# Altium footprint library Connector.PcbLib: 97 footprints (part 4 of 7)
Each footprint in its own frame and in the unit in brackets; x right, y up, seen from the top. Pads: shape width x height; smd on the part's side, far side on the other; paste and mask are expansions set on the pad; w line width, h text height; cw(c..) or ccw(c..) is an arc to the next point about the centre after c.
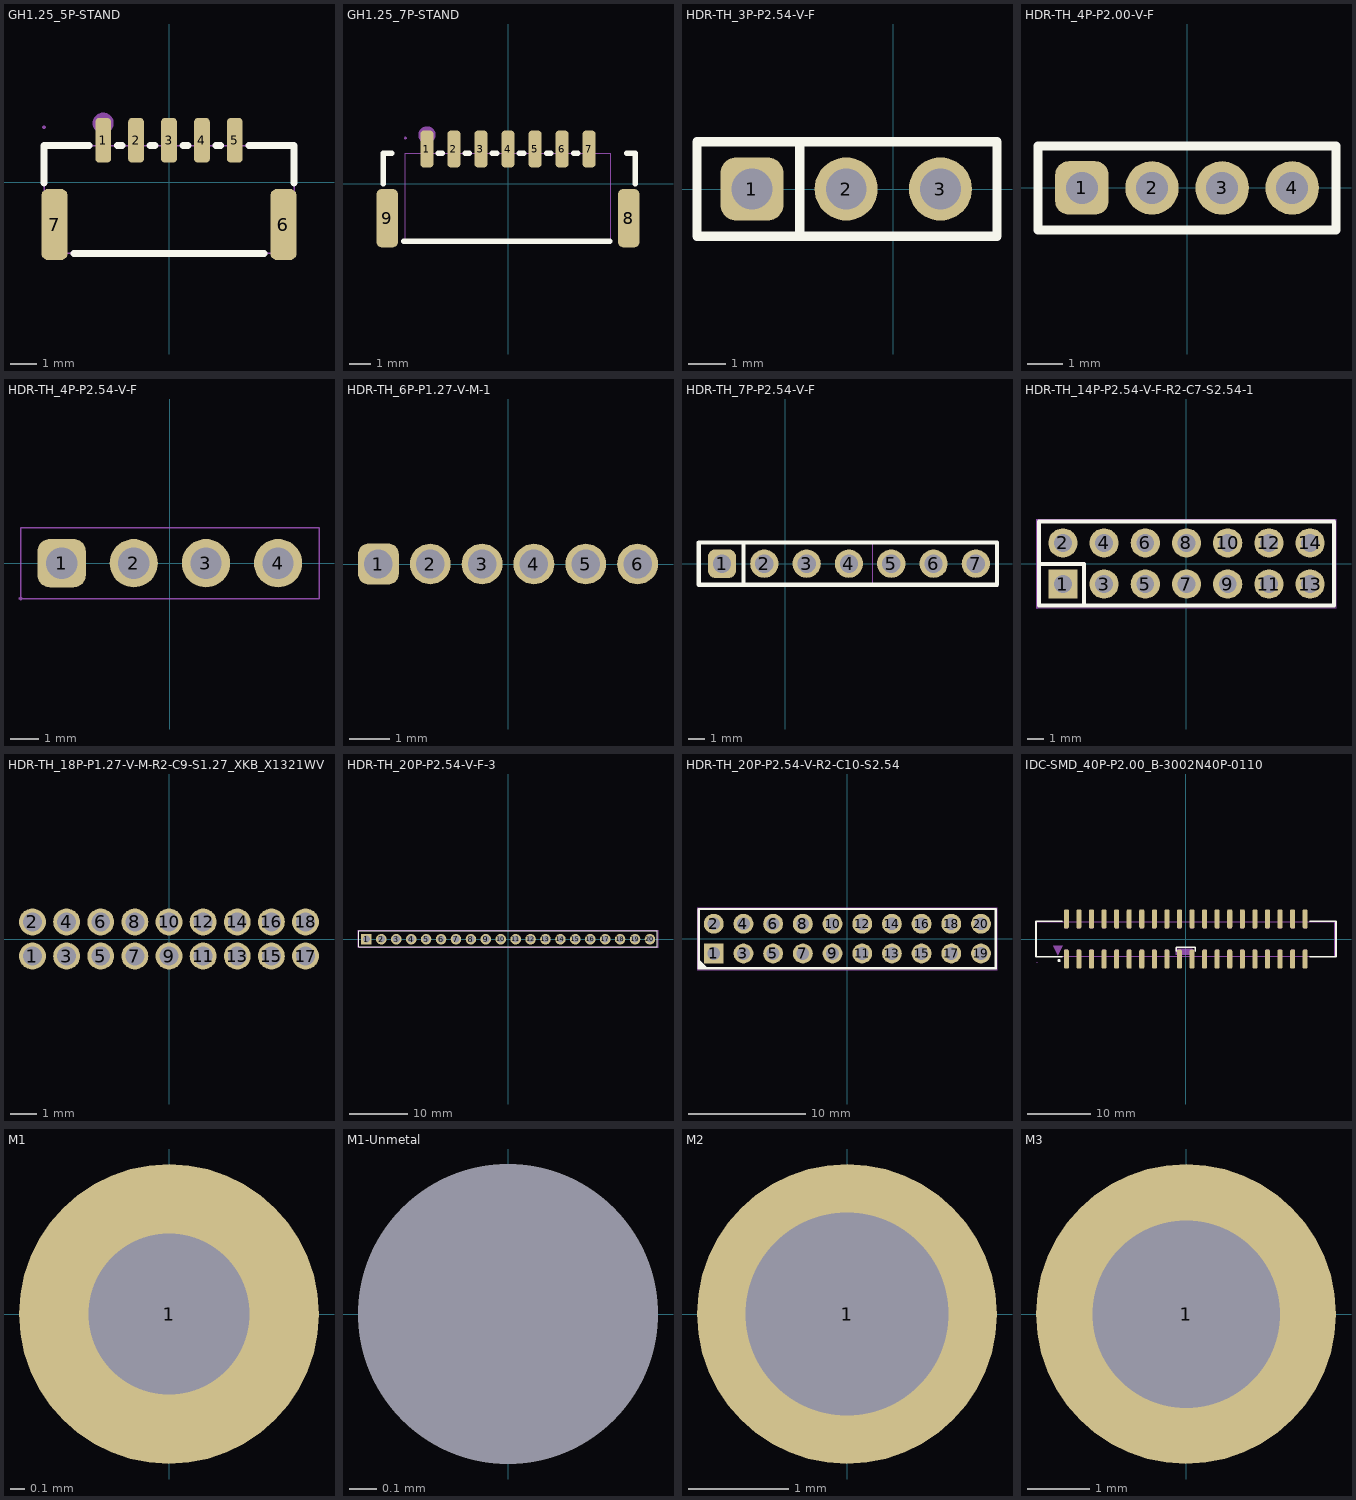
[diagram p3: the footprints below, top view; thin cyan lines are the x and y axes]

## GH1.25_5P-STAND [mm]
pads (7):
  rrect50% 0.6x1.7 smd mask+0.05: 1(-2.5,1.6) 2(-1.25,1.6) 3(0,1.6) 4(1.25,1.6) 5(2.5,1.6)
  rrect50% 1x2.7 smd mask+0.05: 6(4.35,-1.6) 7(-4.35,-1.6)
Top Overlay:
  lines w0.254: -4.75,-0.019 -4.75,1.4 -3.031,1.4 ; -3.619,-2.7 3.619,-2.7 ; -1.969,1.4 -1.781,1.4 ; -0.719,1.4 -0.531,1.4 ; 0.531,1.4 0.719,1.4 ; 1.781,1.4 1.969,1.4 ; 3.031,1.4 4.75,1.4 4.75,-0.019
Mechanical 6:
  circle w0.4: c-2.5,2.25 r0.2
Mechanical 15:
  region: -4.69,2.1 -4.69,2.125 -4.725,2.16 -4.775,2.16 -4.81,2.125 -4.81,2.1 -4.81,2.075 -4.775,2.04 -4.725,2.04 -4.69,2.075 -4.69,2.1
  region: -2.6,2.1 -2.4,2.1 -2.4,1.1 -2.6,1.1
  region: -1.35,2.1 -1.15,2.1 -1.15,1.1 -1.35,1.1
  region: -0.1,2.1 0.1,2.1 0.1,1.1 -0.1,1.1
  region: 1.15,2.1 1.35,2.1 1.35,1.1 1.15,1.1
  region: 2.4,2.1 2.6,2.1 2.6,1.1 2.4,1.1
  region: 4.25,-0.9 4.45,-0.9 4.45,-2.6 4.25,-2.6
  region: -4.45,-0.9 -4.25,-0.9 -4.25,-2.6 -4.45,-2.6
  lines w0.051: -4.75,-2.7 4.75,-2.7 4.75,1.4 -4.75,1.4 -4.75,-2.7
3D body "B05MB-GHS-TBT.STEP": height 4.06, standoff -0.04, extent -4.75,-2.8 4.75,2.1

## GH1.25_7P-STAND [mm]
pads (9):
  rrect50% 0.6x1.7 smd mask+0.05: 1(-3.75,1.6) 2(-2.5,1.6) 3(-1.25,1.6) 4(0,1.6) 5(1.25,1.6) 6(2.5,1.6) 7(3.75,1.6)
  rrect50% 1x2.7 smd mask+0.05: 8(5.588,-1.6) 9(-5.588,-1.6)
Top Overlay:
  lines w0.254: -5.766,-0.019 -5.766,1.4 -5.366,1.4 ; -4.826,-2.667 4.699,-2.667 ; -3.219,1.4 -3.031,1.4 ; -1.969,1.4 -1.781,1.4 ; -0.719,1.4 -0.531,1.4 ; 0.531,1.4 0.719,1.4 ; 1.781,1.4 1.969,1.4 ; 3.031,1.4 3.219,1.4 ; 5.493,1.4 5.893,1.4 5.893,-0.019
Mechanical 6:
  circle w0.4: c-3.75,2.25 r0.2
Mechanical 15:
  region: -5.661,-0.928 -5.461,-0.928 -5.461,-2.628 -5.661,-2.628
  region: 5.461,-0.928 5.661,-0.928 5.661,-2.628 5.461,-2.628
  region: 2.4,2.1 2.6,2.1 2.6,1.1 2.4,1.1
  region: 1.15,2.1 1.35,2.1 1.35,1.1 1.15,1.1
  region: -0.1,2.1 0.1,2.1 0.1,1.1 -0.1,1.1
  region: -1.35,2.1 -1.15,2.1 -1.15,1.1 -1.35,1.1
  region: -2.6,2.1 -2.4,2.1 -2.4,1.1 -2.6,1.1
  region: -4.69,2.1 -4.69,2.125 -4.725,2.16 -4.775,2.16 -4.81,2.125 -4.81,2.1 -4.81,2.075 -4.775,2.04 -4.725,2.04 -4.69,2.075 -4.69,2.1
  region: -3.85,2.1 -3.65,2.1 -3.65,1.1 -3.85,1.1
  region: 3.65,2.1 3.85,2.1 3.85,1.1 3.65,1.1
  lines w0.051: -4.75,-2.7 -4.75,1.4 4.75,1.4 4.75,-2.7 -4.75,-2.7
3D body "B07MB-GHS-TBT.STEP": height 4.13, standoff 0.03, extent -5.95,-2.98 6.05,1.92

## HDR-TH_3P-P2.54-V-F [mm] "间距2.54"
pads (3):
  rrect50% 1.699x1.699 hole 1.1 mask+0.051: 1(-3.81,0)
  round 1.699 hole 1.1 mask+0.051: 2(-1.27,0) 3(1.27,0)
Top Overlay:
  lines w0.254: -2.517,-1.27 -2.517,1.27 ; -5.291,-1.27 -5.291,1.27 2.794,1.27 2.794,-1.27 -5.291,-1.27
Mechanical 15:
  region: -4.13,0.15 -3.49,0.15 -3.49,-0.15 -4.13,-0.15
  region: -1.59,0.15 -0.95,0.15 -0.95,-0.15 -1.59,-0.15
  region: 0.95,0.15 1.59,0.15 1.59,-0.15 0.95,-0.15

## HDR-TH_4P-P2.00-V-F [mil] "间距2.0"
pads (4):
  rrect50% 60x60 hole 36 mask+2: 1(-118.11,0)
  round 60 hole 36 mask+2: 2(-39.37,0) 3(39.37,0) 4(118.11,0)
Top Overlay:
  lines w10: -167.32,-47.24 167.32,-47.24 167.32,47.24 -167.32,47.24 -167.32,-47.24
Mechanical 15:
  region: -164.96,-47.24 -164.96,-46.27 -166.34,-44.88 -168.3,-44.88 -169.69,-46.27 -169.69,-47.24 -169.69,-48.22 -168.3,-49.61 -166.34,-49.61 -164.96,-48.22 -164.96,-47.24
  region: 108.27,3.94 127.95,3.94 127.95,-3.94 108.27,-3.94
  region: 29.53,3.94 49.21,3.94 49.21,-3.94 29.53,-3.94
  region: -49.21,3.94 -29.53,3.94 -29.53,-3.94 -49.21,-3.94
  region: -127.95,3.94 -108.27,3.94 -108.27,-3.94 -127.95,-3.94
  lines w2: -167.32,-47.24 -167.32,47.24 167.32,47.24 167.32,-47.24 -167.32,-47.24

## HDR-TH_4P-P2.54-V-F [mm] "间距2.54"
pads (4):
  rrect50% 1.699x1.699 hole 1.1 mask+0.051: 1(-3.81,0)
  round 1.699 hole 1.1 mask+0.051: 2(-1.27,0) 3(1.27,0) 4(3.81,0)
Mechanical 15:
  region: -4.13,0.15 -3.49,0.15 -3.49,-0.15 -4.13,-0.15
  region: -1.59,0.15 -0.95,0.15 -0.95,-0.15 -1.59,-0.15
  region: 0.95,0.15 1.59,0.15 1.59,-0.15 0.95,-0.15
  region: 3.49,0.15 4.13,0.15 4.13,-0.15 3.49,-0.15
  region: -5.189,-1.25 -5.189,-1.224 -5.225,-1.189 -5.275,-1.189 -5.311,-1.224 -5.311,-1.25 -5.311,-1.275 -5.275,-1.311 -5.225,-1.311 -5.189,-1.275 -5.189,-1.25
  lines w0.051: -5.25,-1.25 -5.25,1.25 5.25,1.25 5.25,-1.25 -5.25,-1.25

## HDR-TH_6P-P1.27-V-M-1 [mm]
pads (6):
  rrect50% 1x1 hole 0.7: 1(-3.175,0)
  round 1 hole 0.7: 2(-1.905,0) 3(-0.635,0) 4(0.635,0) 5(1.905,0) 6(3.175,0)

## HDR-TH_7P-P2.54-V-F [mm] "间距2.54"
pads (7):
  rrect50% 1.699x1.699 hole 1.1 mask+0.051: 1(-3.81,0)
  round 1.699 hole 1.1 mask+0.051: 2(-1.27,0) 3(1.27,0) 4(3.81,0) 5(6.35,0) 6(8.89,0) 7(11.43,0)
Top Overlay:
  lines w0.254: -2.517,-1.27 -2.517,1.27 ; -5.207,-1.27 12.7,-1.27 12.7,1.27 -5.207,1.27 -5.207,-1.27
Mechanical 15:
  region: -4.13,0.15 -3.49,0.15 -3.49,-0.15 -4.13,-0.15
  region: -1.59,0.15 -0.95,0.15 -0.95,-0.15 -1.59,-0.15
  region: 0.95,0.15 1.59,0.15 1.59,-0.15 0.95,-0.15
  region: 3.49,0.15 4.13,0.15 4.13,-0.15 3.49,-0.15
  region: -5.189,-1.25 -5.189,-1.224 -5.225,-1.189 -5.275,-1.189 -5.311,-1.224 -5.311,-1.25 -5.311,-1.275 -5.275,-1.311 -5.225,-1.311 -5.189,-1.275 -5.189,-1.25
  lines w0.051: -5.25,-1.25 -5.25,1.25 5.25,1.25 5.25,-1.25 -5.25,-1.25

## HDR-TH_14P-P2.54-V-F-R2-C7-S2.54-1 [mm]
pads (14):
  rect 1.8x1.8 hole 1.1 paste-2539.97 mask+0.051: 1(-7.62,-1.27)
  round 1.8 hole 1.1 paste-2539.97 mask+0.051: 2(-7.62,1.27) 3(-5.08,-1.27) 4(-5.08,1.27) 5(-2.54,-1.27) 6(-2.54,1.27) 7(0,-1.27) 8(0,1.27) 9(2.54,-1.27) 10(2.54,1.27) 11(5.08,-1.27) 12(5.08,1.27) 13(7.62,-1.27) 14(7.62,1.27)
Top Overlay:
  lines w0.254: -9.09,-0.026 -6.327,-0.026 -6.327,-2.6 ; -9.09,2.6 -9.09,-2.6 9.09,-2.6 9.09,2.6 -9.09,2.6
Mechanical 15:
  drawing of 19 lines, arcs and shapes, not listed

## HDR-TH_18P-P1.27-V-M-R2-C9-S1.27_XKB_X1321WV [mm]
pads (18):
  round 1 hole 0.7: 1(-5.08,-0.635) 2(-5.08,0.635) 3(-3.81,-0.635) 4(-3.81,0.635) 5(-2.54,-0.635) 6(-2.54,0.635) 7(-1.27,-0.635) 8(-1.27,0.635) 9(0,-0.635) 10(0,0.635) 11(1.27,-0.635) 12(1.27,0.635) 13(2.54,-0.635) 14(2.54,0.635) 15(3.81,-0.635) 16(3.81,0.635) 17(5.08,-0.635) 18(5.08,0.635)
3D body "conntefc.step": height 4.03, standoff -2.27, extent -5.715,-1.697 5.715,1.703

## HDR-TH_20P-P2.54-V-F-3 [mm]
pads (20):
  rect 1.8x1.8 hole 1.2 paste-2539.97 mask+0.051: 1(-24.13,0)
  round 1.8 hole 1.2 paste-2539.97 mask+0.051: 2(-21.59,0) 3(-19.05,0) 4(-16.51,0) 5(-13.97,0) 6(-11.43,0) 7(-8.89,0) 8(-6.35,0) 9(-3.81,0) 10(-1.27,0) 11(1.27,0) 12(3.81,0) 13(6.35,0) 14(8.89,0) 15(11.43,0) 16(13.97,0) 17(16.51,0) 18(19.05,0) 19(21.59,0) 20(24.13,0)
Top Overlay:
  lines w0.203: -25.4,-1.27 25.4,-1.27 25.4,1.27 25.4,1.397 -25.4,1.397 -25.4,-1.27
Mechanical 15:
  drawing of 25 lines, arcs and shapes, not listed

## HDR-TH_20P-P2.54-V-R2-C10-S2.54 [mm]
pads (20):
  rect 1.699x1.699 hole 1.1 mask+0.051: 1(-11.43,-1.27)
  round 1.699 hole 1.1 mask+0.051: 2(-11.43,1.27) 3(-8.89,-1.27) 4(-8.89,1.27) 5(-6.35,-1.27) 6(-6.35,1.27) 7(-3.81,-1.27) 8(-3.81,1.27) 9(-1.27,-1.27) 10(-1.27,1.27) 11(1.27,-1.27) 12(1.27,1.27) 13(3.81,-1.27) 14(3.81,1.27) 15(6.35,-1.27) 16(6.35,1.27) 17(8.89,-1.27) 18(8.89,1.27) 19(11.43,-1.27) 20(11.43,1.27)
Top Overlay:
  region: -12.7,-1.778 -11.938,-2.54 -12.7,-2.54
  lines w0.203: -12.7,-2.54 -12.7,2.54 -10.795,2.54 12.7,2.54 12.7,-2.54 -10.795,-2.54 -12.7,-2.54
Mechanical 15:
  drawing of 25 lines, arcs and shapes, not listed

## IDC-SMD_40P-P2.00_B-3002N40P-0110 [mm]
pads (40):
  rrect50% 0.8x3 smd: 1(-19,-3.2) 2(-19,3.2) 3(-17,-3.2) 4(-17,3.2) 5(-15,-3.2) 6(-15,3.2) 7(-13,-3.2) 8(-13,3.2) 9(-11,-3.2) 10(-11,3.2) 11(-9,-3.2) 12(-9,3.2) 13(-7,-3.2) 14(-7,3.2) 15(-5,-3.2) 16(-5,3.2) 17(-3,-3.2) 18(-3,3.2) 19(-1,-3.2) 20(-1,3.2) 21(1,-3.2) 22(1,3.2) 23(3,-3.2) 24(3,3.2) 25(5,-3.2) 26(5,3.2) 27(7,-3.2) 28(7,3.2) 29(9,-3.2) 30(9,3.2) 31(11,-3.2) 32(11,3.2) 33(13,-3.2) 34(13,3.2) 35(15,-3.2) 36(15,3.2) 37(17,-3.2) 38(17,3.2) 39(19,-3.2) 40(19,3.2)
Top Overlay:
  circle w0.254: c-20.146,-3.429 r0.127
  lines w0.254: -19.638,-2.794 -23.829,-2.794 -23.829,2.794 -19.638,2.794 ; -1.524,-1.969 -1.524,-1.334 1.524,-1.334 1.524,-1.969 ; 19.716,-2.794 23.907,-2.794 23.907,2.794 19.716,2.794
Mechanical 6:
  region: -21.045,-1.108 -19.591,-1.104 -20.348,-2.577
  region: 1.06,-1.59 1.06,-2.529 -1.587,-2.529 -1.582,-1.59
Mechanical 15:
  drawing of 45 lines, arcs and shapes, not listed

## M1 [mil] "M1螺孔"
pads (1):
  round 80 hole 43 mask+4: 1(0,0)

## M1-Unmetal [mil] "M1螺孔"
pads (1):
  round 0 hole 43 unplated mask+4: 1(0,0)

## M2 [mm] "M2螺孔"
pads (1):
  round 3 hole 2.032 mask+0.102: 1(0,0)

## M3 [mm]
pads (1):
  round 4.8 hole 3: 1(0,0)